# EAGLE library part ADS1256 (library LinnesLab-DigitalIC)
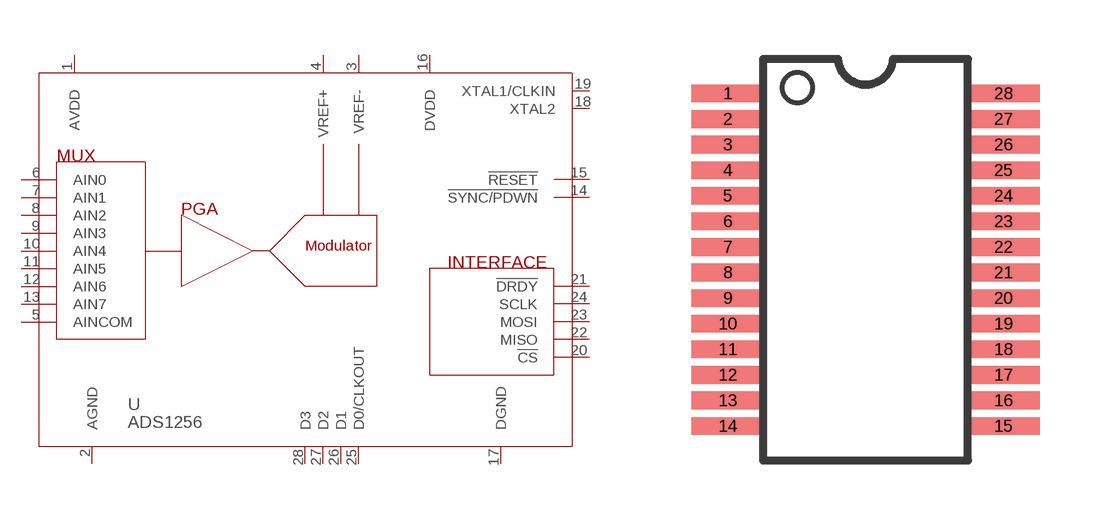
[diagram p17: symbol with the pads of SSOP28; footprint SSOP28]

Designator prefix U

## ADS1256.SSOP28  [SSOP28]
1  AVDD
2  AGND
3  VREF-
4  VREF+
5  AINCOM
6  AIN0
7  AIN1
8  AIN2
9  AIN3
10  AIN4
11  AIN5
12  AIN6
13  AIN7
14  !SYNC/PDWN
15  !RESET
16  DVDD
17  DGND
18  XTAL2
19  XTAL1/CLKIN
20  !CS
21  !DRDY
22  MISO
23  MOSI
24  SCLK
25  D0/CLKOUT
26  D1
27  D2
28  D3

## Footprint SSOP28 (pad centres in mm)
28-Lead Shrink Small Outline Package SSOP (RS-28) Source: http://www.analog.com/UploadedFiles/Data_Sheets/39677768AD7714_c.pdf
smd 1.85 x 0.45: 1 -3.5,4.225; 2 -3.5,3.575; 3 -3.5,2.925; 4 -3.5,2.275; 5 -3.5,1.625; 6 -3.5,0.975; 7 -3.5,0.325; 8 -3.5,-0.325; 9 -3.5,-0.975; 10 -3.5,-1.625; 11 -3.5,-2.275; 12 -3.5,-2.925; 13 -3.5,-3.575; 14 -3.5,-4.225; 15 3.5,-4.225; 16 3.5,-3.575; 17 3.5,-2.925; 18 3.5,-2.275; 19 3.5,-1.625; 20 3.5,-0.975; 21 3.5,-0.325; 22 3.5,0.325; 23 3.5,0.975; 24 3.5,1.625; 25 3.5,2.275; 26 3.5,2.925; 27 3.5,3.575; 28 3.5,4.225